# Altium footprint library PcbLib1.PcbLib: 2 footprints
Each footprint in its own frame and in the unit in brackets; x right, y up, seen from the top. Pads: shape width x height; smd on the part's side, far side on the other; paste and mask are expansions set on the pad; w line width, h text height; cw(c..) or ccw(c..) is an arc to the next point about the centre after c.
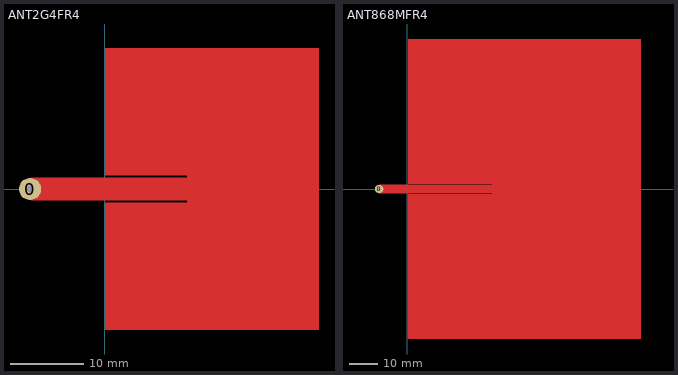
[diagram p0: the footprints below, top view; thin cyan lines are the x and y axes]

## ANT2G4FR4 [mm]
pads (1):
  round 3 hole 1: 0(-10.16,0)
Top Layer:
  rectangle: 0,-19.12 11.12,-1.81
  rectangle: 0,1.81 11.12,19.12
  rectangle: -10,-1.53 11.12,1.53
  rectangle: 11.12,-19.12 29.02,19.12

## ANT868MFR4 [mm]
pads (1):
  round 3 hole 0.768: 0(-10,0)
Top Layer:
  rectangle: 29.83,-52.86 82.4,52.87
  rectangle: 0.127,1.81 29.83,52.87
  rectangle: 0,-52.86 29.83,-1.81
  rectangle: -10,-1.56 29.83,1.56